# Altium footprint library TO-247 angle.PcbLib: 1 footprints
Each footprint in its own frame and in the unit in brackets; x right, y up, seen from the top. Pads: shape width x height; smd on the part's side, far side on the other; paste and mask are expansions set on the pad; w line width, h text height; cw(c..) or ccw(c..) is an arc to the next point about the centre after c.
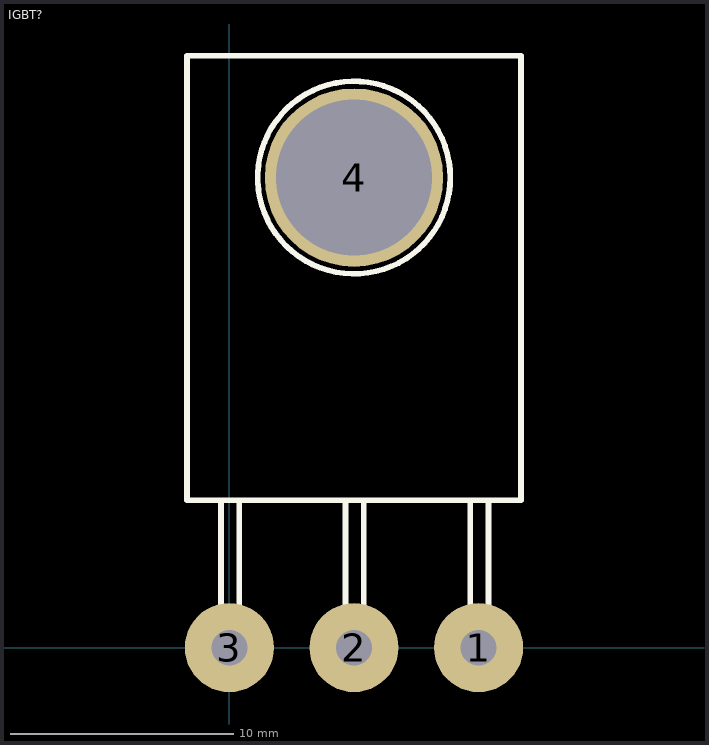
[diagram p0: the footprint, top view; thin cyan lines are the x and y axes]

## IGBT? [mm]
pads (4):
  round 4 hole 1.6: 1(11.176,0) 2(5.588,0) 3(0,0)
  round 8 hole 7: 4(5.588,21.082)
Top Overlay:
  circle w0.254: c5.588,21.082 r4.32
  lines w0.254: -0.381,1.651 -0.381,6.604 -0.254,6.604 ; 0.445,1.651 0.445,6.604 ; 5.207,1.651 5.207,6.604 ; 6.032,1.651 6.032,6.604 ; 10.795,1.651 10.795,6.604 ; 11.62,1.651 11.62,6.604 ; -1.905,6.604 11.176,6.604 13.081,6.604 13.081,26.543 -1.905,26.543 -1.905,6.604
3D body "TO247angle.STEP": height 7, standoff -5, extent -2.135,-0.254 13.565,26.396